# EAGLE library part TPS54560DDA (library hot-wand)
Check availability <https://pricing.snapeda.com/parts/TPS54560DDA/Texas%20Instruments/view-part?ref=eda>
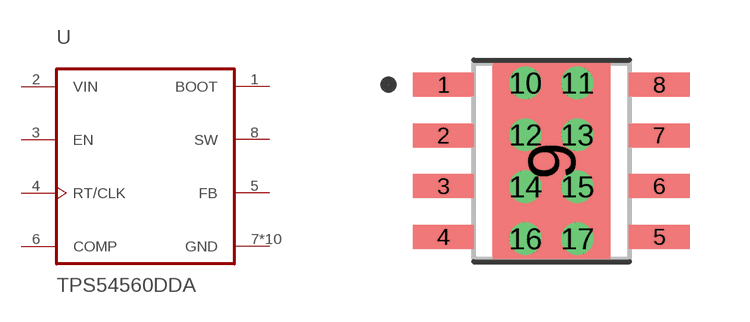
[diagram p2: symbol with the pads of VREG_LM5017MR/NOPB; footprint VREG_LM5017MR/NOPB]

Designator prefix U

## TPS54560DDA (AVAILABILITY: In Stock; CHECK_PRICES: https://www.snapeda.com/parts/TPS54560DDA/Texas+Instruments/view-part/?ref=eda; DESCRIPTION: 4.5V to 60 V input, 5 A step-down converter with Eco-Mode; MF: Texas Instruments; MP: TPS54560DDA; PACKAGE: HSOIC-8 Texas Instruments; PRICE: None; SNAPEDA_LINK: https://www.snapeda.com/parts/TPS54560DDA/Texas+Instruments/view-part/?ref=snap)  [VREG_LM5017MR/NOPB]
1  BOOT  out
2  VIN  in
3  EN  in
4  RT/CLK  in
5  FB  in
6  COMP  out
7  GND  pwr
8  SW  in
9  GND  pwr
10  GND  pwr
11  GND  pwr
12  GND  pwr
13  GND  pwr
14  GND  pwr
15  GND  pwr
16  GND  pwr
17  GND  pwr

## Footprint VREG_LM5017MR/NOPB (pad centres in mm)
smd 1.55 x 0.6: 1 -2.7,1.905; 2 -2.7,0.635; 3 -2.7,-0.635; 4 -2.7,-1.905; 5 2.7,-1.905; 6 2.7,-0.635; 7 2.7,0.635; 8 2.7,1.905
smd 2.95 x 4.9: 9 0,0
drill 0.3 pad 0.3: 10 -0.65,1.95; 11 0.65,1.95; 12 -0.65,0.65; 13 0.65,0.65; 14 -0.65,-0.65; 15 0.65,-0.65; 16 -0.65,-1.95; 17 0.65,-1.95